# Altium integrated library te.IntLib: 17 symbols
Pins are listed as number, name and electrical type; pins without a type are passive.

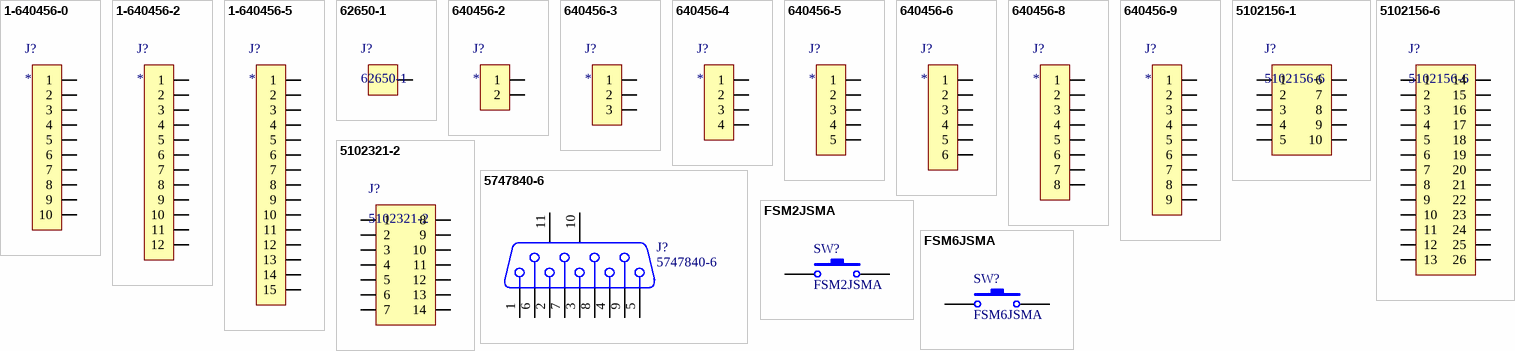
[diagram p0: symbols 1-640456-0 to FSM6JSMA]

## 1-640456-0
designator J?
Screw Terminal, 10 Pin
footprint 1-640456-0 (Pin Header, 10)
pins: 1, 2, 3, 4, 5, 6, 7, 8, 9, 10

## 1-640456-2
designator J?
Screw Terminal, 12Pin
footprint 1-640456-2 (Pin Header, 12)
pins: 1, 2, 3, 4, 5, 6, 7, 8, 9, 10, 11, 12

## 1-640456-5
designator J?
Screw Terminal, 15 Pin
footprint 1-640456-5 (Pin Header, 15)
pins: 1, 2, 3, 4, 5, 6, 7, 8, 9, 10, 11, 12, 13, 14, 15

## 62650-1
designator J?
PCB 0.250" x 0.032" Male Tab
footprint 62650-1 (PCB 0.250" x 0.032" Male Tab)
pins: 1

## 640456-2
designator J?
Screw Terminal, 2 Pin
footprint 640456-2 (Pin Header, 2)
pins: 1, 2

## 640456-3
designator J?
Screw Terminal, 3 Pin
footprint 640456-3 (Pin Header, 3)
pins: 1, 2, 3

## 640456-4
designator J?
Screw Terminal, 4 Pin
footprint 640456-4 (Pin Header, 4)
pins: 1, 2, 3, 4

## 640456-5
designator J?
Screw Terminal, 5 Pin
footprint 640456-5 (Pin Header, 5)
pins: 1, 2, 3, 4, 5

## 640456-6
designator J?
Screw Terminal, 6 Pin
footprint 640456-6 (Pin Header, 6)
pins: 1, 2, 3, 4, 5, 6

## 640456-8
designator J?
Screw Terminal, 8 Pin
footprint 640456-8 (Pin Header, 8)
pins: 1, 2, 3, 4, 5, 6, 7, 8

## 640456-9
designator J?
Screw Terminal, 9 Pin
footprint 640456-9 (Pin Header, 9)
pins: 1, 2, 3, 4, 5, 6, 7, 8, 9

## 5102156-1
designator J?, comment 5102156-6
Header Vertical 10 Position 2.54mm
footprint 5102156-1
pins: 1, 2, 3, 4, 5, 6, 7, 8, 9, 10

## 5102156-6
designator J?
Header Vertical 26 Position 2.54mm
footprint 5102156-6
pins: 1, 2, 3, 4, 5, 6, 7, 8, 9, 10, 11, 12, 13, 14, 15, 16, 17, 18, 19, 20, 21, 22, 23, 24, 25, 26

## 5102321-2
designator J?
Header Vertical 14 Position 2.54mm Latching
footprint 5102321-2 (Headers & Wire Housings 100X100 HDR 2X007P VERT EJE)
pins: 1, 2, 3, 4, 5, 6, 7, 8, 9, 10, 11, 12, 13, 14

## 5747840-6
designator J?
Receptacle Assembly, 9 Position, Right Angle; Date Added: 2015-03-16
footprint 5747840-6
pins: 1, 2, 3, 4, 5, 6, 7, 8, 9, 10 MH1, 11 MH2

## FSM2JSMA
designator SW?
SPST, SMT, Tactile Switch, 4.3 mm, 1.6N
footprint FSM6JSMA
pins: 1, 3

## FSM6JSMA
designator SW?
SPST, SMT, Tactile Switch, 7 mm, 1.6N
footprint FSM6JSMA
pins: 1, 3